# Altium integrated library SI4497DY-T1-GE3CT-ND.IntLib: 1 symbol
Pins are listed as number, name and electrical type; pins without a type are passive.

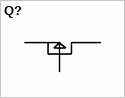
[diagram p0: symbol Q?]

## Q?
designator Q?, comment Mosfet P Channel  (value not drawn)
footprint SOIC127P600X170-8N (SOIC, 8-Leads, Body 5.00x3.90mm, Pitch 1.27mm, IPC Medium Density)
pins: D, G, S